# EAGLE library part PMGD280UN (library AR_transistor)
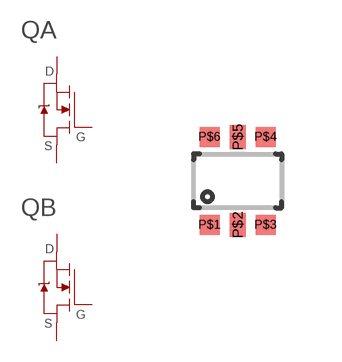
[diagram p0: symbol with the pads of 6-TSSOP; footprint 6-TSSOP]

Designator prefix Q; gates A=N-CHANNEL-MOSFET B=N-CHANNEL-MOSFET

## PMGD280UN  [6-TSSOP]
P$1  A:S
P$2  A:G
P$3  B:D
P$4  B:S
P$5  B:G
P$6  A:D

## Footprint 6-TSSOP (pad centres in mm)
smd 0.5 x 0.5: P$1 -0.7,-1.1; P$3 0.7,-1.1; P$4 0.7,1.1; P$6 -0.7,1.1
smd 0.4 x 0.6: P$2 0,-1.1; P$5 0,1.1